# Altium integrated library Linear Technology Power Management System Supervisor, Monitor and Control.IntLib: 1611 symbols (part 63 of 100)
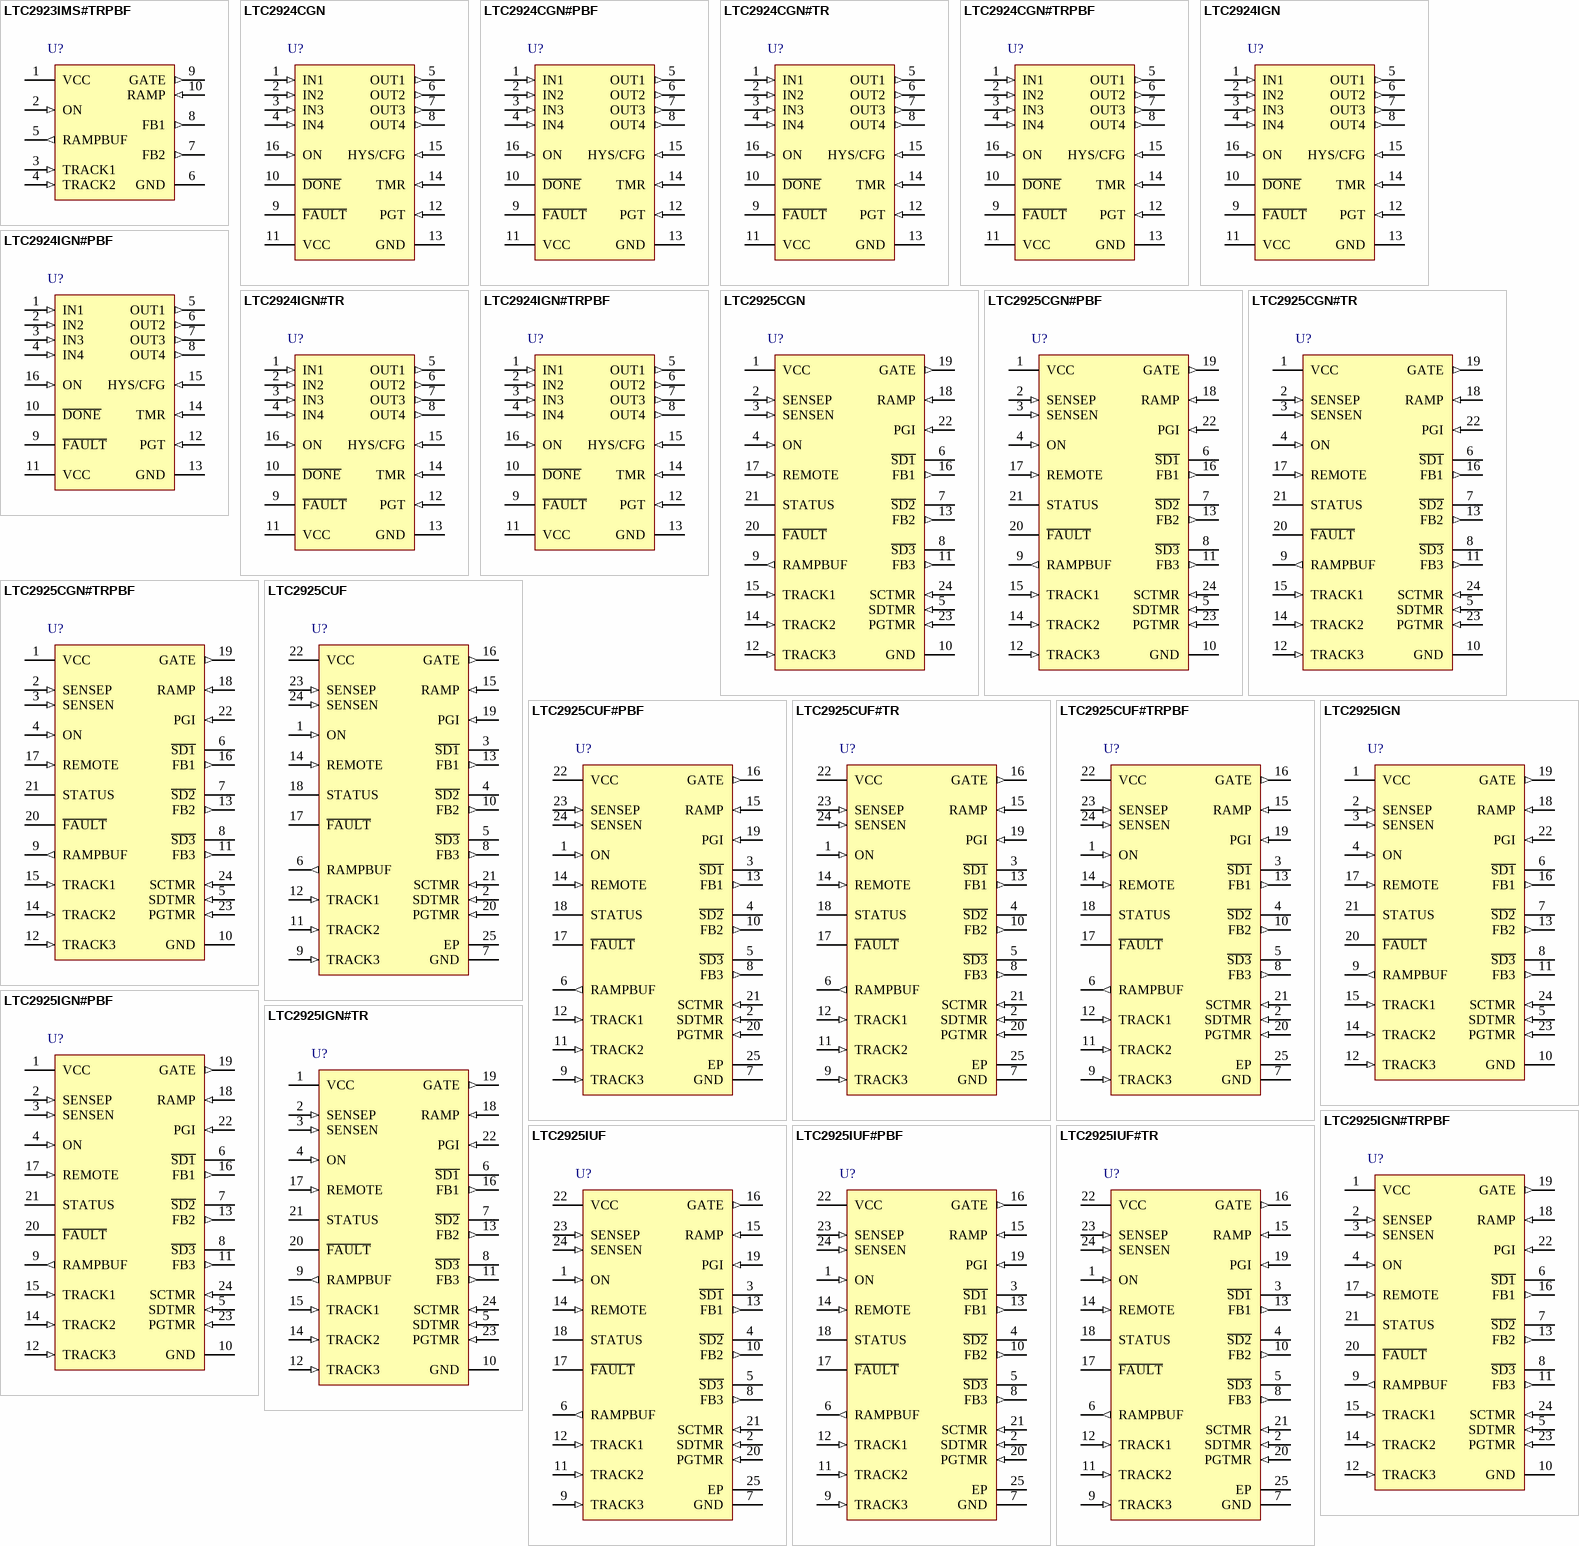
[diagram p107: symbols LTC2923IMS#TRPBF to LTC2925IUF#TR]

## LTC2924CGN
designator U?
Quad Power Supply Sequencer, 16-pin SOP (GN-16), 0 to 70 degC; Manufacturer: Linear Technology; PartNumber: LTC2924CGN; Number of Supplies(#): 6; DatasheetVersion: Rev. B; PackageVersion: Rev. B, 03/2012; PackageReference: GN-16; PackageDescription: 16-Pin Plastic SSOP, Body 4.9 x 3.9 mm, Pitch 0.635 mm; Supplier 1: Newark; Supplier Part Number 1: 56M7097; RoHS: FALSE; Mounting Technology: Surface Mount; ComponentLink1Description: Manufacturer URL; ComponentLink1URL: http://www.linear.com/; ComponentLink2Description: Datasheet; ComponentLink2URL: http://cds.linear.com/docs/en/datasheet/2924fb.pdf; ComponentLink3Description: Package Specification; ComponentLink3URL: http://cds.linear.com/docs/en/packaging/05081641_B_GN16.pdf
footprint LT-GN-16_N (SOP, 16-Leads, Body 5x4mm, Pitch 0.635mm, IPC Medium Density)
footprint LT-GN-16_L (SOP, 16-Leads, Body 5x4mm, Pitch 0.635mm, IPC High Density)
footprint LT-GN-16_M (SOP, 16-Leads, Body 5x4mm, Pitch 0.635mm, IPC Low Density)
pins: 1 IN1 (in) "Sequenced Power Supply Monitor Input. Connect this pin to an external resistive divider between each sequenced power supply and GND. During Power On sequencing, 0.61V (typ) at this pin indicates that the sequenced power (See Datasheet)", 2 IN2 (in) "Sequenced Power Supply Monitor Input. Connect this pin to an external resistive divider between each sequenced power supply and GND. During Power On sequencing, 0.61V (typ) at this pin indicates that the sequenced power (See Datasheet)", 3 IN3 (in) "Sequenced Power Supply Monitor Input. Connect this pin to an external resistive divider between each sequenced power supply and GND. During Power On sequencing, 0.61V (typ) at this pin indicates that the sequenced power (See Datasheet)", 4 IN4 (in) "Sequenced Power Supply Monitor Input. Connect this pin to an external resistive divider between each sequenced power supply and GND. During Power On sequencing, 0.61V (typ) at this pin indicates that the sequenced power (See Datasheet)", 5 OUT1 (out) "Sequenced Power Supply Enable. Connect this pin to the shutdown pin or an external series N-channel MOSFET gate for each power supply being sequenced. (A low at this pin means the sequenced power supply is commanded to turn (See Datasheet)", 6 OUT2 (out) "Sequenced Power Supply Enable. Connect this pin to the shutdown pin or an external series N-channel MOSFET gate for each power supply being sequenced. (A low at this pin means the sequenced power supply is commanded to turn (See Datasheet)", 7 OUT3 (out) "Sequenced Power Supply Enable. Connect this pin to the shutdown pin or an external series N-channel MOSFET gate for each power supply being sequenced. (A low at this pin means the sequenced power supply is commanded to turn (See Datasheet)", 8 OUT4 (out) "Sequenced Power Supply Enable. Connect this pin to the shutdown pin or an external series N-channel MOSFET gate for each power supply being sequenced. (A low at this pin means the sequenced power supply is commanded to turn (See Datasheet)", 9 ~{FAULT} (oc) "Fault Pin. Pull this pin high with an external 10k resistor. The LTC2924 will pull this pin low if a fault condition is detected (see Applications Information for details). Pulling this pin low externally causes a (See Datasheet)", 10 ~{DONE} (oc) "Done Pin. Pull this pin high with an external 10k resistor. This open-drain output pulls low at the completion of the Power-On sequence. At the end of the Power Off sequence, the LTC2924 floats this pin. For cascading (See Datasheet)", 11 VCC (power) "LTC2924 Power Supply Input. All internal circuits are powered from this pin. VCC should be connected to a low noise power supply voltage and should be bypassed with at least a 0.1uF capacitor to the GND pin in close (See Datasheet)", 12 PGT (in) "Power Good Timer. The PGT pin sets the time allowed for a power supply to turn on after being enabled with the OUT1-OUT4 pins. Connecting a capacitor between this pin and ground programs a 200mS/uF duration. The PGT pin is (See Datasheet)", 13 GND (power) "Ground. All internal circuits are returned to the GND pin. Connect this pin to the ground of the power supplies that are being sequenced.", 14 TMR (in) "Timer. A capacitor connected between this pin and ground sets the time delay between a supply ready (IN1-IN4) signal and the enabling of the next power supply in the sequence (OUT1-OUT4), with a 200mS/uF duration. The TMR (See Datasheet)", 15 HYS/CFG (in) "Hysteresis Current Setting and Cascade Configuration. Connecting a resistor between this pin and GND programs a 0.5/REXT (typ) hysteresis current which is sourced out of each IN and ON pin. When multiple LTC2924s are (See Datasheet)", 16 ON (in) "On Pin. Commands the LTC2924 to sequence the power supplies up (Power On sequence) or down (Power Off sequence). Typically connected to a system controller. Hysteresis current is applied to this pin when above 0.61V (typ). (See Datasheet)"

## LTC2924CGN#PBF
designator U?
Quad Power Supply Sequencer, 16-pin SOP (GN-16), 0 to 70 degC, Pb-Free; Manufacturer: Linear Technology; PartNumber: LTC2924CGN#PBF; Number of Supplies(#): 6; DatasheetVersion: Rev. B; PackageVersion: Rev. B, 03/2012; PackageReference: GN-16; PackageDescription: 16-Pin Plastic SSOP, Body 4.9 x 3.9 mm, Pitch 0.635 mm; Supplier 1: Digi-Key; Supplier Part Number 1: LTC2924CGN#PBF-ND; Supplier 2: Farnell; Supplier Part Number 2: 1273922; Supplier 3: Newark; Supplier Part Number 3: 56M7098; RoHS: TRUE; Mounting Technology: Surface Mount; ComponentLink1Description: Manufacturer URL; ComponentLink1URL: http://www.linear.com/; ComponentLink2Description: Datasheet; ComponentLink2URL: http://cds.linear.com/docs/en/datasheet/2924fb.pdf; ComponentLink3Description: Package Specification; ComponentLink3URL: http://cds.linear.com/docs/en/packaging/05081641_B_GN16.pdf
footprint LT-GN-16_N (SOP, 16-Leads, Body 5x4mm, Pitch 0.635mm, IPC Medium Density)
footprint LT-GN-16_L (SOP, 16-Leads, Body 5x4mm, Pitch 0.635mm, IPC High Density)
footprint LT-GN-16_M (SOP, 16-Leads, Body 5x4mm, Pitch 0.635mm, IPC Low Density)
pins: 1 IN1 (in) "Sequenced Power Supply Monitor Input. Connect this pin to an external resistive divider between each sequenced power supply and GND. During Power On sequencing, 0.61V (typ) at this pin indicates that the sequenced power (See Datasheet)", 2 IN2 (in) "Sequenced Power Supply Monitor Input. Connect this pin to an external resistive divider between each sequenced power supply and GND. During Power On sequencing, 0.61V (typ) at this pin indicates that the sequenced power (See Datasheet)", 3 IN3 (in) "Sequenced Power Supply Monitor Input. Connect this pin to an external resistive divider between each sequenced power supply and GND. During Power On sequencing, 0.61V (typ) at this pin indicates that the sequenced power (See Datasheet)", 4 IN4 (in) "Sequenced Power Supply Monitor Input. Connect this pin to an external resistive divider between each sequenced power supply and GND. During Power On sequencing, 0.61V (typ) at this pin indicates that the sequenced power (See Datasheet)", 5 OUT1 (out) "Sequenced Power Supply Enable. Connect this pin to the shutdown pin or an external series N-channel MOSFET gate for each power supply being sequenced. (A low at this pin means the sequenced power supply is commanded to turn (See Datasheet)", 6 OUT2 (out) "Sequenced Power Supply Enable. Connect this pin to the shutdown pin or an external series N-channel MOSFET gate for each power supply being sequenced. (A low at this pin means the sequenced power supply is commanded to turn (See Datasheet)", 7 OUT3 (out) "Sequenced Power Supply Enable. Connect this pin to the shutdown pin or an external series N-channel MOSFET gate for each power supply being sequenced. (A low at this pin means the sequenced power supply is commanded to turn (See Datasheet)", 8 OUT4 (out) "Sequenced Power Supply Enable. Connect this pin to the shutdown pin or an external series N-channel MOSFET gate for each power supply being sequenced. (A low at this pin means the sequenced power supply is commanded to turn (See Datasheet)", 9 ~{FAULT} (oc) "Fault Pin. Pull this pin high with an external 10k resistor. The LTC2924 will pull this pin low if a fault condition is detected (see Applications Information for details). Pulling this pin low externally causes a (See Datasheet)", 10 ~{DONE} (oc) "Done Pin. Pull this pin high with an external 10k resistor. This open-drain output pulls low at the completion of the Power-On sequence. At the end of the Power Off sequence, the LTC2924 floats this pin. For cascading (See Datasheet)", 11 VCC (power) "LTC2924 Power Supply Input. All internal circuits are powered from this pin. VCC should be connected to a low noise power supply voltage and should be bypassed with at least a 0.1uF capacitor to the GND pin in close (See Datasheet)", 12 PGT (in) "Power Good Timer. The PGT pin sets the time allowed for a power supply to turn on after being enabled with the OUT1-OUT4 pins. Connecting a capacitor between this pin and ground programs a 200mS/uF duration. The PGT pin is (See Datasheet)", 13 GND (power) "Ground. All internal circuits are returned to the GND pin. Connect this pin to the ground of the power supplies that are being sequenced.", 14 TMR (in) "Timer. A capacitor connected between this pin and ground sets the time delay between a supply ready (IN1-IN4) signal and the enabling of the next power supply in the sequence (OUT1-OUT4), with a 200mS/uF duration. The TMR (See Datasheet)", 15 HYS/CFG (in) "Hysteresis Current Setting and Cascade Configuration. Connecting a resistor between this pin and GND programs a 0.5/REXT (typ) hysteresis current which is sourced out of each IN and ON pin. When multiple LTC2924s are (See Datasheet)", 16 ON (in) "On Pin. Commands the LTC2924 to sequence the power supplies up (Power On sequence) or down (Power Off sequence). Typically connected to a system controller. Hysteresis current is applied to this pin when above 0.61V (typ). (See Datasheet)"

## LTC2924CGN#TR
designator U?
Quad Power Supply Sequencer, 16-pin SOP (GN-16), 0 to 70 degC, Tape and Reel; Manufacturer: Linear Technology; PartNumber: LTC2924CGN#TR; Number of Supplies(#): 6; DatasheetVersion: Rev. B; PackageVersion: Rev. B, 03/2012; PackageReference: GN-16; PackageDescription: 16-Pin Plastic SSOP, Body 4.9 x 3.9 mm, Pitch 0.635 mm; Packing: Tape and Reel; RoHS: FALSE; Mounting Technology: Surface Mount; ComponentLink1Description: Manufacturer URL; ComponentLink1URL: http://www.linear.com/; ComponentLink2Description: Datasheet; ComponentLink2URL: http://cds.linear.com/docs/en/datasheet/2924fb.pdf; ComponentLink3Description: Package Specification; ComponentLink3URL: http://cds.linear.com/docs/en/packaging/05081641_B_GN16.pdf
footprint LT-GN-16_N (SOP, 16-Leads, Body 5x4mm, Pitch 0.635mm, IPC Medium Density)
footprint LT-GN-16_L (SOP, 16-Leads, Body 5x4mm, Pitch 0.635mm, IPC High Density)
footprint LT-GN-16_M (SOP, 16-Leads, Body 5x4mm, Pitch 0.635mm, IPC Low Density)
pins: 1 IN1 (in) "Sequenced Power Supply Monitor Input. Connect this pin to an external resistive divider between each sequenced power supply and GND. During Power On sequencing, 0.61V (typ) at this pin indicates that the sequenced power (See Datasheet)", 2 IN2 (in) "Sequenced Power Supply Monitor Input. Connect this pin to an external resistive divider between each sequenced power supply and GND. During Power On sequencing, 0.61V (typ) at this pin indicates that the sequenced power (See Datasheet)", 3 IN3 (in) "Sequenced Power Supply Monitor Input. Connect this pin to an external resistive divider between each sequenced power supply and GND. During Power On sequencing, 0.61V (typ) at this pin indicates that the sequenced power (See Datasheet)", 4 IN4 (in) "Sequenced Power Supply Monitor Input. Connect this pin to an external resistive divider between each sequenced power supply and GND. During Power On sequencing, 0.61V (typ) at this pin indicates that the sequenced power (See Datasheet)", 5 OUT1 (out) "Sequenced Power Supply Enable. Connect this pin to the shutdown pin or an external series N-channel MOSFET gate for each power supply being sequenced. (A low at this pin means the sequenced power supply is commanded to turn (See Datasheet)", 6 OUT2 (out) "Sequenced Power Supply Enable. Connect this pin to the shutdown pin or an external series N-channel MOSFET gate for each power supply being sequenced. (A low at this pin means the sequenced power supply is commanded to turn (See Datasheet)", 7 OUT3 (out) "Sequenced Power Supply Enable. Connect this pin to the shutdown pin or an external series N-channel MOSFET gate for each power supply being sequenced. (A low at this pin means the sequenced power supply is commanded to turn (See Datasheet)", 8 OUT4 (out) "Sequenced Power Supply Enable. Connect this pin to the shutdown pin or an external series N-channel MOSFET gate for each power supply being sequenced. (A low at this pin means the sequenced power supply is commanded to turn (See Datasheet)", 9 ~{FAULT} (oc) "Fault Pin. Pull this pin high with an external 10k resistor. The LTC2924 will pull this pin low if a fault condition is detected (see Applications Information for details). Pulling this pin low externally causes a (See Datasheet)", 10 ~{DONE} (oc) "Done Pin. Pull this pin high with an external 10k resistor. This open-drain output pulls low at the completion of the Power-On sequence. At the end of the Power Off sequence, the LTC2924 floats this pin. For cascading (See Datasheet)", 11 VCC (power) "LTC2924 Power Supply Input. All internal circuits are powered from this pin. VCC should be connected to a low noise power supply voltage and should be bypassed with at least a 0.1uF capacitor to the GND pin in close (See Datasheet)", 12 PGT (in) "Power Good Timer. The PGT pin sets the time allowed for a power supply to turn on after being enabled with the OUT1-OUT4 pins. Connecting a capacitor between this pin and ground programs a 200mS/uF duration. The PGT pin is (See Datasheet)", 13 GND (power) "Ground. All internal circuits are returned to the GND pin. Connect this pin to the ground of the power supplies that are being sequenced.", 14 TMR (in) "Timer. A capacitor connected between this pin and ground sets the time delay between a supply ready (IN1-IN4) signal and the enabling of the next power supply in the sequence (OUT1-OUT4), with a 200mS/uF duration. The TMR (See Datasheet)", 15 HYS/CFG (in) "Hysteresis Current Setting and Cascade Configuration. Connecting a resistor between this pin and GND programs a 0.5/REXT (typ) hysteresis current which is sourced out of each IN and ON pin. When multiple LTC2924s are (See Datasheet)", 16 ON (in) "On Pin. Commands the LTC2924 to sequence the power supplies up (Power On sequence) or down (Power Off sequence). Typically connected to a system controller. Hysteresis current is applied to this pin when above 0.61V (typ). (See Datasheet)"

## LTC2924CGN#TRPBF
designator U?
Quad Power Supply Sequencer, 16-pin SOP (GN-16), 0 to 70 degC, Pb-Free, Tape and Reel; Manufacturer: Linear Technology; PartNumber: LTC2924CGN#TRPBF; Number of Supplies(#): 6; DatasheetVersion: Rev. B; PackageVersion: Rev. B, 03/2012; PackageReference: GN-16; PackageDescription: 16-Pin Plastic SSOP, Body 4.9 x 3.9 mm, Pitch 0.635 mm; Supplier 1: Digi-Key; Supplier Part Number 1: LTC2924CGN#TRPBF-ND; Supplier 2: Newark; Supplier Part Number 2: 56M7100; Packing: Tape and Reel; RoHS: TRUE; Mounting Technology: Surface Mount; ComponentLink1Description: Manufacturer URL; ComponentLink1URL: http://www.linear.com/; ComponentLink2Description: Datasheet; ComponentLink2URL: http://cds.linear.com/docs/en/datasheet/2924fb.pdf; ComponentLink3Description: Package Specification; ComponentLink3URL: http://cds.linear.com/docs/en/packaging/05081641_B_GN16.pdf
footprint LT-GN-16_N (SOP, 16-Leads, Body 5x4mm, Pitch 0.635mm, IPC Medium Density)
footprint LT-GN-16_L (SOP, 16-Leads, Body 5x4mm, Pitch 0.635mm, IPC High Density)
footprint LT-GN-16_M (SOP, 16-Leads, Body 5x4mm, Pitch 0.635mm, IPC Low Density)
pins: 1 IN1 (in) "Sequenced Power Supply Monitor Input. Connect this pin to an external resistive divider between each sequenced power supply and GND. During Power On sequencing, 0.61V (typ) at this pin indicates that the sequenced power (See Datasheet)", 2 IN2 (in) "Sequenced Power Supply Monitor Input. Connect this pin to an external resistive divider between each sequenced power supply and GND. During Power On sequencing, 0.61V (typ) at this pin indicates that the sequenced power (See Datasheet)", 3 IN3 (in) "Sequenced Power Supply Monitor Input. Connect this pin to an external resistive divider between each sequenced power supply and GND. During Power On sequencing, 0.61V (typ) at this pin indicates that the sequenced power (See Datasheet)", 4 IN4 (in) "Sequenced Power Supply Monitor Input. Connect this pin to an external resistive divider between each sequenced power supply and GND. During Power On sequencing, 0.61V (typ) at this pin indicates that the sequenced power (See Datasheet)", 5 OUT1 (out) "Sequenced Power Supply Enable. Connect this pin to the shutdown pin or an external series N-channel MOSFET gate for each power supply being sequenced. (A low at this pin means the sequenced power supply is commanded to turn (See Datasheet)", 6 OUT2 (out) "Sequenced Power Supply Enable. Connect this pin to the shutdown pin or an external series N-channel MOSFET gate for each power supply being sequenced. (A low at this pin means the sequenced power supply is commanded to turn (See Datasheet)", 7 OUT3 (out) "Sequenced Power Supply Enable. Connect this pin to the shutdown pin or an external series N-channel MOSFET gate for each power supply being sequenced. (A low at this pin means the sequenced power supply is commanded to turn (See Datasheet)", 8 OUT4 (out) "Sequenced Power Supply Enable. Connect this pin to the shutdown pin or an external series N-channel MOSFET gate for each power supply being sequenced. (A low at this pin means the sequenced power supply is commanded to turn (See Datasheet)", 9 ~{FAULT} (oc) "Fault Pin. Pull this pin high with an external 10k resistor. The LTC2924 will pull this pin low if a fault condition is detected (see Applications Information for details). Pulling this pin low externally causes a (See Datasheet)", 10 ~{DONE} (oc) "Done Pin. Pull this pin high with an external 10k resistor. This open-drain output pulls low at the completion of the Power-On sequence. At the end of the Power Off sequence, the LTC2924 floats this pin. For cascading (See Datasheet)", 11 VCC (power) "LTC2924 Power Supply Input. All internal circuits are powered from this pin. VCC should be connected to a low noise power supply voltage and should be bypassed with at least a 0.1uF capacitor to the GND pin in close (See Datasheet)", 12 PGT (in) "Power Good Timer. The PGT pin sets the time allowed for a power supply to turn on after being enabled with the OUT1-OUT4 pins. Connecting a capacitor between this pin and ground programs a 200mS/uF duration. The PGT pin is (See Datasheet)", 13 GND (power) "Ground. All internal circuits are returned to the GND pin. Connect this pin to the ground of the power supplies that are being sequenced.", 14 TMR (in) "Timer. A capacitor connected between this pin and ground sets the time delay between a supply ready (IN1-IN4) signal and the enabling of the next power supply in the sequence (OUT1-OUT4), with a 200mS/uF duration. The TMR (See Datasheet)", 15 HYS/CFG (in) "Hysteresis Current Setting and Cascade Configuration. Connecting a resistor between this pin and GND programs a 0.5/REXT (typ) hysteresis current which is sourced out of each IN and ON pin. When multiple LTC2924s are (See Datasheet)", 16 ON (in) "On Pin. Commands the LTC2924 to sequence the power supplies up (Power On sequence) or down (Power Off sequence). Typically connected to a system controller. Hysteresis current is applied to this pin when above 0.61V (typ). (See Datasheet)"

## LTC2924IGN
designator U?
Quad Power Supply Sequencer, 16-pin SOP (GN-16), -40 to 85 degC; Manufacturer: Linear Technology; PartNumber: LTC2924IGN; Number of Supplies(#): 6; DatasheetVersion: Rev. B; PackageVersion: Rev. B, 03/2012; PackageReference: GN-16; PackageDescription: 16-Pin Plastic SSOP, Body 4.9 x 3.9 mm, Pitch 0.635 mm; Supplier 1: Newark; Supplier Part Number 1: 56M7101; RoHS: FALSE; Mounting Technology: Surface Mount; ComponentLink1Description: Manufacturer URL; ComponentLink1URL: http://www.linear.com/; ComponentLink2Description: Datasheet; ComponentLink2URL: http://cds.linear.com/docs/en/datasheet/2924fb.pdf; ComponentLink3Description: Package Specification; ComponentLink3URL: http://cds.linear.com/docs/en/packaging/05081641_B_GN16.pdf
footprint LT-GN-16_N (SOP, 16-Leads, Body 5x4mm, Pitch 0.635mm, IPC Medium Density)
footprint LT-GN-16_L (SOP, 16-Leads, Body 5x4mm, Pitch 0.635mm, IPC High Density)
footprint LT-GN-16_M (SOP, 16-Leads, Body 5x4mm, Pitch 0.635mm, IPC Low Density)
pins: 1 IN1 (in) "Sequenced Power Supply Monitor Input. Connect this pin to an external resistive divider between each sequenced power supply and GND. During Power On sequencing, 0.61V (typ) at this pin indicates that the sequenced power (See Datasheet)", 2 IN2 (in) "Sequenced Power Supply Monitor Input. Connect this pin to an external resistive divider between each sequenced power supply and GND. During Power On sequencing, 0.61V (typ) at this pin indicates that the sequenced power (See Datasheet)", 3 IN3 (in) "Sequenced Power Supply Monitor Input. Connect this pin to an external resistive divider between each sequenced power supply and GND. During Power On sequencing, 0.61V (typ) at this pin indicates that the sequenced power (See Datasheet)", 4 IN4 (in) "Sequenced Power Supply Monitor Input. Connect this pin to an external resistive divider between each sequenced power supply and GND. During Power On sequencing, 0.61V (typ) at this pin indicates that the sequenced power (See Datasheet)", 5 OUT1 (out) "Sequenced Power Supply Enable. Connect this pin to the shutdown pin or an external series N-channel MOSFET gate for each power supply being sequenced. (A low at this pin means the sequenced power supply is commanded to turn (See Datasheet)", 6 OUT2 (out) "Sequenced Power Supply Enable. Connect this pin to the shutdown pin or an external series N-channel MOSFET gate for each power supply being sequenced. (A low at this pin means the sequenced power supply is commanded to turn (See Datasheet)", 7 OUT3 (out) "Sequenced Power Supply Enable. Connect this pin to the shutdown pin or an external series N-channel MOSFET gate for each power supply being sequenced. (A low at this pin means the sequenced power supply is commanded to turn (See Datasheet)", 8 OUT4 (out) "Sequenced Power Supply Enable. Connect this pin to the shutdown pin or an external series N-channel MOSFET gate for each power supply being sequenced. (A low at this pin means the sequenced power supply is commanded to turn (See Datasheet)", 9 ~{FAULT} (oc) "Fault Pin. Pull this pin high with an external 10k resistor. The LTC2924 will pull this pin low if a fault condition is detected (see Applications Information for details). Pulling this pin low externally causes a (See Datasheet)", 10 ~{DONE} (oc) "Done Pin. Pull this pin high with an external 10k resistor. This open-drain output pulls low at the completion of the Power-On sequence. At the end of the Power Off sequence, the LTC2924 floats this pin. For cascading (See Datasheet)", 11 VCC (power) "LTC2924 Power Supply Input. All internal circuits are powered from this pin. VCC should be connected to a low noise power supply voltage and should be bypassed with at least a 0.1uF capacitor to the GND pin in close (See Datasheet)", 12 PGT (in) "Power Good Timer. The PGT pin sets the time allowed for a power supply to turn on after being enabled with the OUT1-OUT4 pins. Connecting a capacitor between this pin and ground programs a 200mS/uF duration. The PGT pin is (See Datasheet)", 13 GND (power) "Ground. All internal circuits are returned to the GND pin. Connect this pin to the ground of the power supplies that are being sequenced.", 14 TMR (in) "Timer. A capacitor connected between this pin and ground sets the time delay between a supply ready (IN1-IN4) signal and the enabling of the next power supply in the sequence (OUT1-OUT4), with a 200mS/uF duration. The TMR (See Datasheet)", 15 HYS/CFG (in) "Hysteresis Current Setting and Cascade Configuration. Connecting a resistor between this pin and GND programs a 0.5/REXT (typ) hysteresis current which is sourced out of each IN and ON pin. When multiple LTC2924s are (See Datasheet)", 16 ON (in) "On Pin. Commands the LTC2924 to sequence the power supplies up (Power On sequence) or down (Power Off sequence). Typically connected to a system controller. Hysteresis current is applied to this pin when above 0.61V (typ). (See Datasheet)"

## LTC2924IGN#PBF
designator U?
Quad Power Supply Sequencer, 16-pin SOP (GN-16), -40 to 85 degC, Pb-Free; Manufacturer: Linear Technology; PartNumber: LTC2924IGN#PBF; Number of Supplies(#): 6; DatasheetVersion: Rev. B; PackageVersion: Rev. B, 03/2012; PackageReference: GN-16; PackageDescription: 16-Pin Plastic SSOP, Body 4.9 x 3.9 mm, Pitch 0.635 mm; Supplier 1: Digi-Key; Supplier Part Number 1: LTC2924IGN#PBF-ND; Supplier 2: Farnell; Supplier Part Number 2: 2295439; Supplier 3: Newark; Supplier Part Number 3: 56M7102; RoHS: TRUE; Mounting Technology: Surface Mount; ComponentLink1Description: Manufacturer URL; ComponentLink1URL: http://www.linear.com/; ComponentLink2Description: Datasheet; ComponentLink2URL: http://cds.linear.com/docs/en/datasheet/2924fb.pdf; ComponentLink3Description: Package Specification; ComponentLink3URL: http://cds.linear.com/docs/en/packaging/05081641_B_GN16.pdf
footprint LT-GN-16_N (SOP, 16-Leads, Body 5x4mm, Pitch 0.635mm, IPC Medium Density)
footprint LT-GN-16_L (SOP, 16-Leads, Body 5x4mm, Pitch 0.635mm, IPC High Density)
footprint LT-GN-16_M (SOP, 16-Leads, Body 5x4mm, Pitch 0.635mm, IPC Low Density)
pins: 1 IN1 (in) "Sequenced Power Supply Monitor Input. Connect this pin to an external resistive divider between each sequenced power supply and GND. During Power On sequencing, 0.61V (typ) at this pin indicates that the sequenced power (See Datasheet)", 2 IN2 (in) "Sequenced Power Supply Monitor Input. Connect this pin to an external resistive divider between each sequenced power supply and GND. During Power On sequencing, 0.61V (typ) at this pin indicates that the sequenced power (See Datasheet)", 3 IN3 (in) "Sequenced Power Supply Monitor Input. Connect this pin to an external resistive divider between each sequenced power supply and GND. During Power On sequencing, 0.61V (typ) at this pin indicates that the sequenced power (See Datasheet)", 4 IN4 (in) "Sequenced Power Supply Monitor Input. Connect this pin to an external resistive divider between each sequenced power supply and GND. During Power On sequencing, 0.61V (typ) at this pin indicates that the sequenced power (See Datasheet)", 5 OUT1 (out) "Sequenced Power Supply Enable. Connect this pin to the shutdown pin or an external series N-channel MOSFET gate for each power supply being sequenced. (A low at this pin means the sequenced power supply is commanded to turn (See Datasheet)", 6 OUT2 (out) "Sequenced Power Supply Enable. Connect this pin to the shutdown pin or an external series N-channel MOSFET gate for each power supply being sequenced. (A low at this pin means the sequenced power supply is commanded to turn (See Datasheet)", 7 OUT3 (out) "Sequenced Power Supply Enable. Connect this pin to the shutdown pin or an external series N-channel MOSFET gate for each power supply being sequenced. (A low at this pin means the sequenced power supply is commanded to turn (See Datasheet)", 8 OUT4 (out) "Sequenced Power Supply Enable. Connect this pin to the shutdown pin or an external series N-channel MOSFET gate for each power supply being sequenced. (A low at this pin means the sequenced power supply is commanded to turn (See Datasheet)", 9 ~{FAULT} (oc) "Fault Pin. Pull this pin high with an external 10k resistor. The LTC2924 will pull this pin low if a fault condition is detected (see Applications Information for details). Pulling this pin low externally causes a (See Datasheet)", 10 ~{DONE} (oc) "Done Pin. Pull this pin high with an external 10k resistor. This open-drain output pulls low at the completion of the Power-On sequence. At the end of the Power Off sequence, the LTC2924 floats this pin. For cascading (See Datasheet)", 11 VCC (power) "LTC2924 Power Supply Input. All internal circuits are powered from this pin. VCC should be connected to a low noise power supply voltage and should be bypassed with at least a 0.1uF capacitor to the GND pin in close (See Datasheet)", 12 PGT (in) "Power Good Timer. The PGT pin sets the time allowed for a power supply to turn on after being enabled with the OUT1-OUT4 pins. Connecting a capacitor between this pin and ground programs a 200mS/uF duration. The PGT pin is (See Datasheet)", 13 GND (power) "Ground. All internal circuits are returned to the GND pin. Connect this pin to the ground of the power supplies that are being sequenced.", 14 TMR (in) "Timer. A capacitor connected between this pin and ground sets the time delay between a supply ready (IN1-IN4) signal and the enabling of the next power supply in the sequence (OUT1-OUT4), with a 200mS/uF duration. The TMR (See Datasheet)", 15 HYS/CFG (in) "Hysteresis Current Setting and Cascade Configuration. Connecting a resistor between this pin and GND programs a 0.5/REXT (typ) hysteresis current which is sourced out of each IN and ON pin. When multiple LTC2924s are (See Datasheet)", 16 ON (in) "On Pin. Commands the LTC2924 to sequence the power supplies up (Power On sequence) or down (Power Off sequence). Typically connected to a system controller. Hysteresis current is applied to this pin when above 0.61V (typ). (See Datasheet)"

## LTC2924IGN#TR
designator U?
Quad Power Supply Sequencer, 16-pin SOP (GN-16), -40 to 85 degC, Tape and Reel; Manufacturer: Linear Technology; PartNumber: LTC2924IGN#TR; Number of Supplies(#): 6; DatasheetVersion: Rev. B; PackageVersion: Rev. B, 03/2012; PackageReference: GN-16; PackageDescription: 16-Pin Plastic SSOP, Body 4.9 x 3.9 mm, Pitch 0.635 mm; Packing: Tape and Reel; RoHS: FALSE; Mounting Technology: Surface Mount; ComponentLink1Description: Manufacturer URL; ComponentLink1URL: http://www.linear.com/; ComponentLink2Description: Datasheet; ComponentLink2URL: http://cds.linear.com/docs/en/datasheet/2924fb.pdf; ComponentLink3Description: Package Specification; ComponentLink3URL: http://cds.linear.com/docs/en/packaging/05081641_B_GN16.pdf
footprint LT-GN-16_N (SOP, 16-Leads, Body 5x4mm, Pitch 0.635mm, IPC Medium Density)
footprint LT-GN-16_L (SOP, 16-Leads, Body 5x4mm, Pitch 0.635mm, IPC High Density)
footprint LT-GN-16_M (SOP, 16-Leads, Body 5x4mm, Pitch 0.635mm, IPC Low Density)
pins: 1 IN1 (in) "Sequenced Power Supply Monitor Input. Connect this pin to an external resistive divider between each sequenced power supply and GND. During Power On sequencing, 0.61V (typ) at this pin indicates that the sequenced power (See Datasheet)", 2 IN2 (in) "Sequenced Power Supply Monitor Input. Connect this pin to an external resistive divider between each sequenced power supply and GND. During Power On sequencing, 0.61V (typ) at this pin indicates that the sequenced power (See Datasheet)", 3 IN3 (in) "Sequenced Power Supply Monitor Input. Connect this pin to an external resistive divider between each sequenced power supply and GND. During Power On sequencing, 0.61V (typ) at this pin indicates that the sequenced power (See Datasheet)", 4 IN4 (in) "Sequenced Power Supply Monitor Input. Connect this pin to an external resistive divider between each sequenced power supply and GND. During Power On sequencing, 0.61V (typ) at this pin indicates that the sequenced power (See Datasheet)", 5 OUT1 (out) "Sequenced Power Supply Enable. Connect this pin to the shutdown pin or an external series N-channel MOSFET gate for each power supply being sequenced. (A low at this pin means the sequenced power supply is commanded to turn (See Datasheet)", 6 OUT2 (out) "Sequenced Power Supply Enable. Connect this pin to the shutdown pin or an external series N-channel MOSFET gate for each power supply being sequenced. (A low at this pin means the sequenced power supply is commanded to turn (See Datasheet)", 7 OUT3 (out) "Sequenced Power Supply Enable. Connect this pin to the shutdown pin or an external series N-channel MOSFET gate for each power supply being sequenced. (A low at this pin means the sequenced power supply is commanded to turn (See Datasheet)", 8 OUT4 (out) "Sequenced Power Supply Enable. Connect this pin to the shutdown pin or an external series N-channel MOSFET gate for each power supply being sequenced. (A low at this pin means the sequenced power supply is commanded to turn (See Datasheet)", 9 ~{FAULT} (oc) "Fault Pin. Pull this pin high with an external 10k resistor. The LTC2924 will pull this pin low if a fault condition is detected (see Applications Information for details). Pulling this pin low externally causes a (See Datasheet)", 10 ~{DONE} (oc) "Done Pin. Pull this pin high with an external 10k resistor. This open-drain output pulls low at the completion of the Power-On sequence. At the end of the Power Off sequence, the LTC2924 floats this pin. For cascading (See Datasheet)", 11 VCC (power) "LTC2924 Power Supply Input. All internal circuits are powered from this pin. VCC should be connected to a low noise power supply voltage and should be bypassed with at least a 0.1uF capacitor to the GND pin in close (See Datasheet)", 12 PGT (in) "Power Good Timer. The PGT pin sets the time allowed for a power supply to turn on after being enabled with the OUT1-OUT4 pins. Connecting a capacitor between this pin and ground programs a 200mS/uF duration. The PGT pin is (See Datasheet)", 13 GND (power) "Ground. All internal circuits are returned to the GND pin. Connect this pin to the ground of the power supplies that are being sequenced.", 14 TMR (in) "Timer. A capacitor connected between this pin and ground sets the time delay between a supply ready (IN1-IN4) signal and the enabling of the next power supply in the sequence (OUT1-OUT4), with a 200mS/uF duration. The TMR (See Datasheet)", 15 HYS/CFG (in) "Hysteresis Current Setting and Cascade Configuration. Connecting a resistor between this pin and GND programs a 0.5/REXT (typ) hysteresis current which is sourced out of each IN and ON pin. When multiple LTC2924s are (See Datasheet)", 16 ON (in) "On Pin. Commands the LTC2924 to sequence the power supplies up (Power On sequence) or down (Power Off sequence). Typically connected to a system controller. Hysteresis current is applied to this pin when above 0.61V (typ). (See Datasheet)"

## LTC2924IGN#TRPBF
designator U?
Quad Power Supply Sequencer, 16-pin SOP (GN-16), -40 to 85 degC, Pb-Free, Tape and Reel; Manufacturer: Linear Technology; PartNumber: LTC2924IGN#TRPBF; Number of Supplies(#): 6; DatasheetVersion: Rev. B; PackageVersion: Rev. B, 03/2012; PackageReference: GN-16; PackageDescription: 16-Pin Plastic SSOP, Body 4.9 x 3.9 mm, Pitch 0.635 mm; Supplier 1: Digi-Key; Supplier Part Number 1: LTC2924IGN#TRPBF-ND; Supplier 2: Newark; Supplier Part Number 2: 56M7104; Packing: Tape and Reel; RoHS: TRUE; Mounting Technology: Surface Mount; ComponentLink1Description: Manufacturer URL; ComponentLink1URL: http://www.linear.com/; ComponentLink2Description: Datasheet; ComponentLink2URL: http://cds.linear.com/docs/en/datasheet/2924fb.pdf; ComponentLink3Description: Package Specification; ComponentLink3URL: http://cds.linear.com/docs/en/packaging/05081641_B_GN16.pdf
footprint LT-GN-16_N (SOP, 16-Leads, Body 5x4mm, Pitch 0.635mm, IPC Medium Density)
footprint LT-GN-16_L (SOP, 16-Leads, Body 5x4mm, Pitch 0.635mm, IPC High Density)
footprint LT-GN-16_M (SOP, 16-Leads, Body 5x4mm, Pitch 0.635mm, IPC Low Density)
pins: 1 IN1 (in) "Sequenced Power Supply Monitor Input. Connect this pin to an external resistive divider between each sequenced power supply and GND. During Power On sequencing, 0.61V (typ) at this pin indicates that the sequenced power (See Datasheet)", 2 IN2 (in) "Sequenced Power Supply Monitor Input. Connect this pin to an external resistive divider between each sequenced power supply and GND. During Power On sequencing, 0.61V (typ) at this pin indicates that the sequenced power (See Datasheet)", 3 IN3 (in) "Sequenced Power Supply Monitor Input. Connect this pin to an external resistive divider between each sequenced power supply and GND. During Power On sequencing, 0.61V (typ) at this pin indicates that the sequenced power (See Datasheet)", 4 IN4 (in) "Sequenced Power Supply Monitor Input. Connect this pin to an external resistive divider between each sequenced power supply and GND. During Power On sequencing, 0.61V (typ) at this pin indicates that the sequenced power (See Datasheet)", 5 OUT1 (out) "Sequenced Power Supply Enable. Connect this pin to the shutdown pin or an external series N-channel MOSFET gate for each power supply being sequenced. (A low at this pin means the sequenced power supply is commanded to turn (See Datasheet)", 6 OUT2 (out) "Sequenced Power Supply Enable. Connect this pin to the shutdown pin or an external series N-channel MOSFET gate for each power supply being sequenced. (A low at this pin means the sequenced power supply is commanded to turn (See Datasheet)", 7 OUT3 (out) "Sequenced Power Supply Enable. Connect this pin to the shutdown pin or an external series N-channel MOSFET gate for each power supply being sequenced. (A low at this pin means the sequenced power supply is commanded to turn (See Datasheet)", 8 OUT4 (out) "Sequenced Power Supply Enable. Connect this pin to the shutdown pin or an external series N-channel MOSFET gate for each power supply being sequenced. (A low at this pin means the sequenced power supply is commanded to turn (See Datasheet)", 9 ~{FAULT} (oc) "Fault Pin. Pull this pin high with an external 10k resistor. The LTC2924 will pull this pin low if a fault condition is detected (see Applications Information for details). Pulling this pin low externally causes a (See Datasheet)", 10 ~{DONE} (oc) "Done Pin. Pull this pin high with an external 10k resistor. This open-drain output pulls low at the completion of the Power-On sequence. At the end of the Power Off sequence, the LTC2924 floats this pin. For cascading (See Datasheet)", 11 VCC (power) "LTC2924 Power Supply Input. All internal circuits are powered from this pin. VCC should be connected to a low noise power supply voltage and should be bypassed with at least a 0.1uF capacitor to the GND pin in close (See Datasheet)", 12 PGT (in) "Power Good Timer. The PGT pin sets the time allowed for a power supply to turn on after being enabled with the OUT1-OUT4 pins. Connecting a capacitor between this pin and ground programs a 200mS/uF duration. The PGT pin is (See Datasheet)", 13 GND (power) "Ground. All internal circuits are returned to the GND pin. Connect this pin to the ground of the power supplies that are being sequenced.", 14 TMR (in) "Timer. A capacitor connected between this pin and ground sets the time delay between a supply ready (IN1-IN4) signal and the enabling of the next power supply in the sequence (OUT1-OUT4), with a 200mS/uF duration. The TMR (See Datasheet)", 15 HYS/CFG (in) "Hysteresis Current Setting and Cascade Configuration. Connecting a resistor between this pin and GND programs a 0.5/REXT (typ) hysteresis current which is sourced out of each IN and ON pin. When multiple LTC2924s are (See Datasheet)", 16 ON (in) "On Pin. Commands the LTC2924 to sequence the power supplies up (Power On sequence) or down (Power Off sequence). Typically connected to a system controller. Hysteresis current is applied to this pin when above 0.61V (typ). (See Datasheet)"

## LTC2925CGN
designator U?
Multiple Power Supply Tracking Controller with Power Good Timeout, 24-pin SOP (GN-24), 0 to 70 degC; Manufacturer: Linear Technology; PartNumber: LTC2925CGN; Number of Supplies(#): 4; DatasheetVersion: Rev. C; PackageVersion: Rev. B, 03/2012; PackageReference: GN24; PackageDescription: 24-Pin Plastic SSOP , Body 8.5 x 3.9 mm, Pitch 0.635 mm; Supplier 1: Digi-Key; Supplier Part Number 1: LTC2925CGN-ND; RoHS: FALSE; Mounting Technology: Surface Mount; ComponentLink1Description: Manufacturer URL; ComponentLink1URL: http://www.linear.com/; ComponentLink2Description: Datasheet; ComponentLink2URL: http://cds.linear.com/docs/en/datasheet/2925fc.pdf; ComponentLink3Description: Package Specification; ComponentLink3URL: http://cds.linear.com/docs/en/packaging/05081641_B_GN24.pdf
footprint LT-GN-24_N (SOP, 24-Leads, Body 8.7x4mm, Pitch 0.635mm, IPC Medium Density)
footprint LT-GN-24_L (SOP, 24-Leads, Body 8.7x4mm, Pitch 0.635mm, IPC High Density)
footprint LT-GN-24_M (SOP, 24-Leads, Body 8.7x4mm, Pitch 0.635mm, IPC Low Density)
pins: 1 VCC (power) "Positive Supply Input. The operating supply input range is 2.9V to 5.5V. An undervoltage lockout circuit resets the part when the supply is below 2.5V. VCC should be bypassed to GND with a 0.1uF capacitor", 2 SENSEP (in) "Circuit Breaker Positive Sense Input. SENSEP and SENSEN measure the voltage across the sense resistor and trigger the circuit breaker function when the current exceeds the level programmed by the sense resistor for longer (See Datasheet)", 3 SENSEN (in) "Circuit Breaker Negative Sense Input. SENSEN connects to the low side of the current sense resistor. SENSEP and SENSEN monitor the current through the external FET by measuring the voltage across the sense resistor. The (See Datasheet)", 4 ON (in) "On Control Input. The ON pin has a threshold of 1.23V with 75mV of hysteresis. An active high will cause 10uA to flow from the GATE pin, ramping up the supplies. An active low pulls 10uA from the GATE pin, ramping the (See Datasheet)", 5 SDTMR (in) "Shutdown Timer. A capacitor from SDTMR to GND sets the delay time between the ON pin transitioning high (which releases the S\D\x\ pins) and the supplies beginning to ramp-up. Float SDTMR when it is unused.", 6 ~{SD1} (oc) "Outputs for Slave Supply Shutdowns. The S\D\x\ pins are open-drain outputs that hold the shutdown (RUN/SS) pins of the slave supplies low until the ON pin is pulled above 1.23V. The S\D\x\ pins will be pulled low again when (See Datasheet)", 7 ~{SD2} (oc) "Outputs for Slave Supply Shutdowns. The S\D\x\ pins are open-drain outputs that hold the shutdown (RUN/SS) pins of the slave supplies low until the ON pin is pulled above 1.23V. The S\D\x\ pins will be pulled low again when (See Datasheet)", 8 ~{SD3} (oc) "Outputs for Slave Supply Shutdowns. The S\D\x\ pins are open-drain outputs that hold the shutdown (RUN/SS) pins of the slave supplies low until the ON pin is pulled above 1.23V. The S\D\x\ pins will be pulled low again when (See Datasheet)", 9 RAMPBUF (out) "Ramp Buffer Output. Provides a low impedance buffered version of the signal on the RAMP pin. This buffered output drives the resistive dividers that connect to the TRACKx pins. Limit the capacitance at the RAMPBUF pin to (See Datasheet)", 10 GND (power) "Circuit Ground", 11 FB3 (out) "Feedback Control Output. FBx connects to the feedback node of slave supplies. Tracking is achieved by mirroring the current from TRACKx into FBx. If the appropriate resistive divider connects RAMPBUF and TRACKx, the FBx (See Datasheet)", 12 TRACK3 (in) "Tracking Control Input Pin. A resistive divider between RAMPBUF, TRACKx and GND determines the tracking profi le of OUTx (see Applications Information). TRACKx pulls up to 0.8V and the current supplied at TRACKx is mirrored (See Datasheet)", 13 FB2 (out) "Feedback Control Output. FBx connects to the feedback node of slave supplies. Tracking is achieved by mirroring the current from TRACKx into FBx. If the appropriate resistive divider connects RAMPBUF and TRACKx, the FBx (See Datasheet)", 14 TRACK2 (in) "Tracking Control Input Pin. A resistive divider between RAMPBUF, TRACKx and GND determines the tracking profi le of OUTx (see Applications Information). TRACKx pulls up to 0.8V and the current supplied at TRACKx is mirrored (See Datasheet)", 15 TRACK1 (in) "Tracking Control Input Pin. A resistive divider between RAMPBUF, TRACKx and GND determines the tracking profi le of OUTx (see Applications Information). TRACKx pulls up to 0.8V and the current supplied at TRACKx is mirrored (See Datasheet)", 16 FB1 (out) "Feedback Control Output. FBx connects to the feedback node of slave supplies. Tracking is achieved by mirroring the current from TRACKx into FBx. If the appropriate resistive divider connects RAMPBUF and TRACKx, the FBx (See Datasheet)", 17 REMOTE (in) "Remote Sense Switch. A 15ohm switch connects REMOTE to RAMP when the GATE is fully enhanced (GATE > RAMP + 4.9V). Otherwise, it presents a high impedance. When the slave supplies track the master supply, REMOTE can be used (See Datasheet)", 18 RAMP (in) "Ramp Buffer Input. When the RAMP pin is connected to the source of the external N-channel FET, the slave supplies track the FET’s source as it ramps up and down. Alternatively, when no external FET is used, the RAMP pi(See Datasheet)", 19 GATE (out) "Gate Drive for External N-Channel FET. When the ON pin is high, an internal 10uA current source charges the gate of the external N-channel MOSFET.A capacitor connected from GATE to GND sets the ramp rate. It is a good (See Datasheet)", 20 ~{FAULT} (oc) "Circuit Breaker and Power Good Timer Fault Output. F\A\U\L\T\ is an open-drain output that pulls low when the electronic circuit breaker is activated or a power good timeout fault is detected. F\A\U\L\T\ is reset by pulling (See Datasheet)", 21 STATUS (hiz) "Power Good Status Indicator. The STATUS pin is an open-drain output that pulls low until GATE has been fully charged at which time all supplies will have reached their final operating voltage.", 22 PGI (in) "Power Good Timer Input. PGI connects to the R\S\T\ pin of the downstream supply monitor. If PGI has not transitioned high within a power good timer cycle (see PGTMR), the F\A\U\L\T\ pin will be pulled low and the supplies (See Datasheet)", 23 PGTMR (in) "Power Good Timer. A capacitor from PGTMR to GND sets the power good timer duration.While ON > 1.23V, the PGTMR pin will pull up to VCC with 10uA. Otherwise, it pulls to GND. If the voltage on the PGTMR pin exceeds 1.23V and (See Datasheet)", 24 SCTMR (in) "Circuit Breaker Timer. A capacitor from SCTMR to GND programs the maximum time that a short circuit can be sustained before GATE is pulled low. When (SENSEP - SENSEN) > 50mV, SCTMR will pull up with 50uA, otherwise it pulls (See Datasheet)"